# Altium footprint library footprint_parameters.PcbLib: 1 footprints
Each footprint in its own frame and in the unit in brackets; x right, y up, seen from the top. Pads: shape width x height; smd on the part's side, far side on the other; paste and mask are expansions set on the pad; w line width, h text height; cw(c..) or ccw(c..) is an arc to the next point about the centre after c.

## footprint_parameters [mm] "this is a test of footprint parameters,  the height setting and area.  Hieght is set to 123mil, area is set to 3.14 SQin"
height 3.124